# EAGLE library part CON_02X12 (library PP_Connectors)
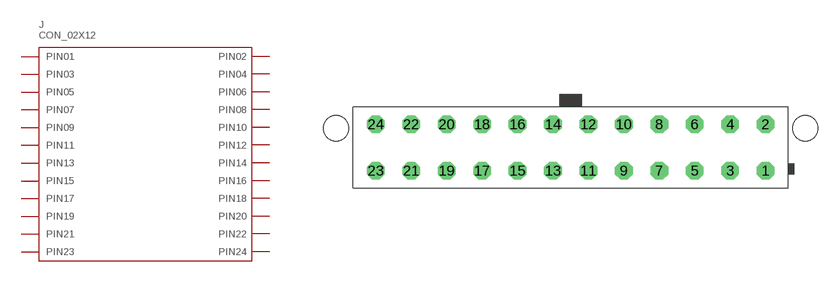
[diagram p9: symbol with the pads of 39-28-8240; footprint 39-28-8240]

Designator prefix J

## CON_02X12_39-28-8240 (POPULATE: 1)  [39-28-8240]
1  1
2  2
3  3
4  4
5  5
6  6
7  7
8  8
9  9
10  10
11  11
12  12
13  13
14  14
15  15
16  16
17  17
18  18
19  19
20  20
21  21
22  22
23  23
24  24

## Footprint 39-28-8240 (pad centres in mm)
drill 1.4 octagon: 1 23.1,-2.75; 2 23.1,2.75; 3 18.9,-2.75; 4 18.9,2.75; 5 14.7,-2.75; 6 14.7,2.75; 7 10.5,-2.75; 8 10.5,2.75; 9 6.3,-2.75; 10 6.3,2.75; 11 2.1,-2.75; 12 2.1,2.75; 13 -2.1,-2.75; 14 -2.1,2.75; 15 -6.3,-2.75; 16 -6.3,2.75; 17 -10.5,-2.75; 18 -10.5,2.75; 19 -14.7,-2.75; 20 -14.7,2.75; 21 -18.9,-2.75; 22 -18.9,2.75; 23 -23.1,-2.75; 24 -23.1,2.75
hole 3 at -27.8,2.29
hole 3 at 27.8,2.29